# Altium schematic symbol library L_JLC.SchLib: 5 symbols
Pins are listed as number, name and electrical type; pins without a type are passive.

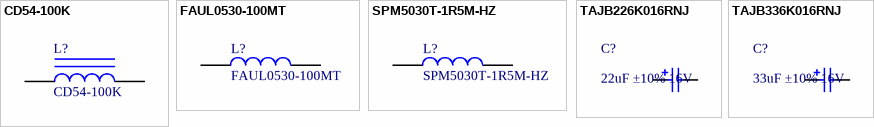
[diagram p0: symbols CD54-100K to TAJB336K016RNJ]

## CD54-100K
designator L?
Magnetic-Core Inductor,工字功率电感; Value: 10uH; Published: 24-Mar-1999; LatestRevisionDate: 17-Jul-2002; LatestRevisionNote: Re-released for DXP Platform.; PackageReference: AXIAL-0.9; Publisher: Altium Limited; PackageDescription: Axial Device, Thru-Hole; 2 Leads; 0.9 in Pin Spacing
simulation model INDUCTOR (Inductor)
footprint CD54 (5.8*5.2*4.5mm)
pins: 1, 2

## FAUL0530-100MT
designator L?
电感值：10uH 精度：±20% 额定电流：3.5A 饱和电流(Isat)：3.5A 直流电阻(DCR)：125mΩ SMD,5.4x5.2x2.8mm（0503) 一体成型电感，车规级电感，一体成型，大电流，满足AEC-Q200认证; Value: 10uH; Published: 24-Mar-1999; LatestRevisionDate: 17-Jul-2002; LatestRevisionNote: Re-released for DXP Platform.; PackageReference: AXIAL-0.9; Publisher: Altium Limited; PackageDescription: Axial Device, Thru-Hole; 2 Leads; 0.9 in Pin Spacing
simulation model INDUCTOR (Inductor)
footprint IND-SMD_L5.4-W5.2-H2.8
pins: 1, 2

## SPM5030T-1R5M-HZ
designator L?
电感值：10uH 精度：±10% 10UH ±10％ DCR:0.182Ω 额定电流1.04A; Published: 24-Mar-1999; LatestRevisionDate: 17-Jul-2002; LatestRevisionNote: Re-released for DXP Platform.; PackageReference: AXIAL-0.9; Publisher: Altium Limited; PackageDescription: Axial Device, Thru-Hole; 2 Leads; 0.9 in Pin Spacing; Value: 10uH
simulation model INDUCTOR (Inductor)
footprint IND-SMD_L5.2-W5.1
pins: 1, 2

## TAJB226K016RNJ
designator C?, comment 22uF ±10% 16V
容值：22uF 精度：±10% 额定电压：16V 等效串联电阻：2.3Ω@100kHz 工作温度：-55℃~+125℃; ComponentLink1Description: 供应商链接; ComponentLink1URL: http://www.szlcsc.com/product/details_16815.html; Package: 3528; Supplier: LC; SuppliersPartNumber: C16133
footprint CAP-SMD_L3.5-W2.8-R-RD
pins: 1, 2

## TAJB336K016RNJ
designator C?, comment 33uF ±10% 16V
容值：33uF 精度：±10% 额定电压：16V 等效串联电阻：2.1Ω@100kHz 工作温度：-55℃~+125℃; ComponentLink1Description: 供应商链接; ComponentLink1URL: http://www.szlcsc.com/product/details_16815.html; Package: 3528; Supplier: LC; SuppliersPartNumber: C16133
footprint CAP-SMD_L3.5-W2.8-R-RD
pins: 1, 2